# Altium schematic symbol library UC-SCH.SchLib: 115 symbols
Pins are listed as number, name and electrical type; pins without a type are passive.

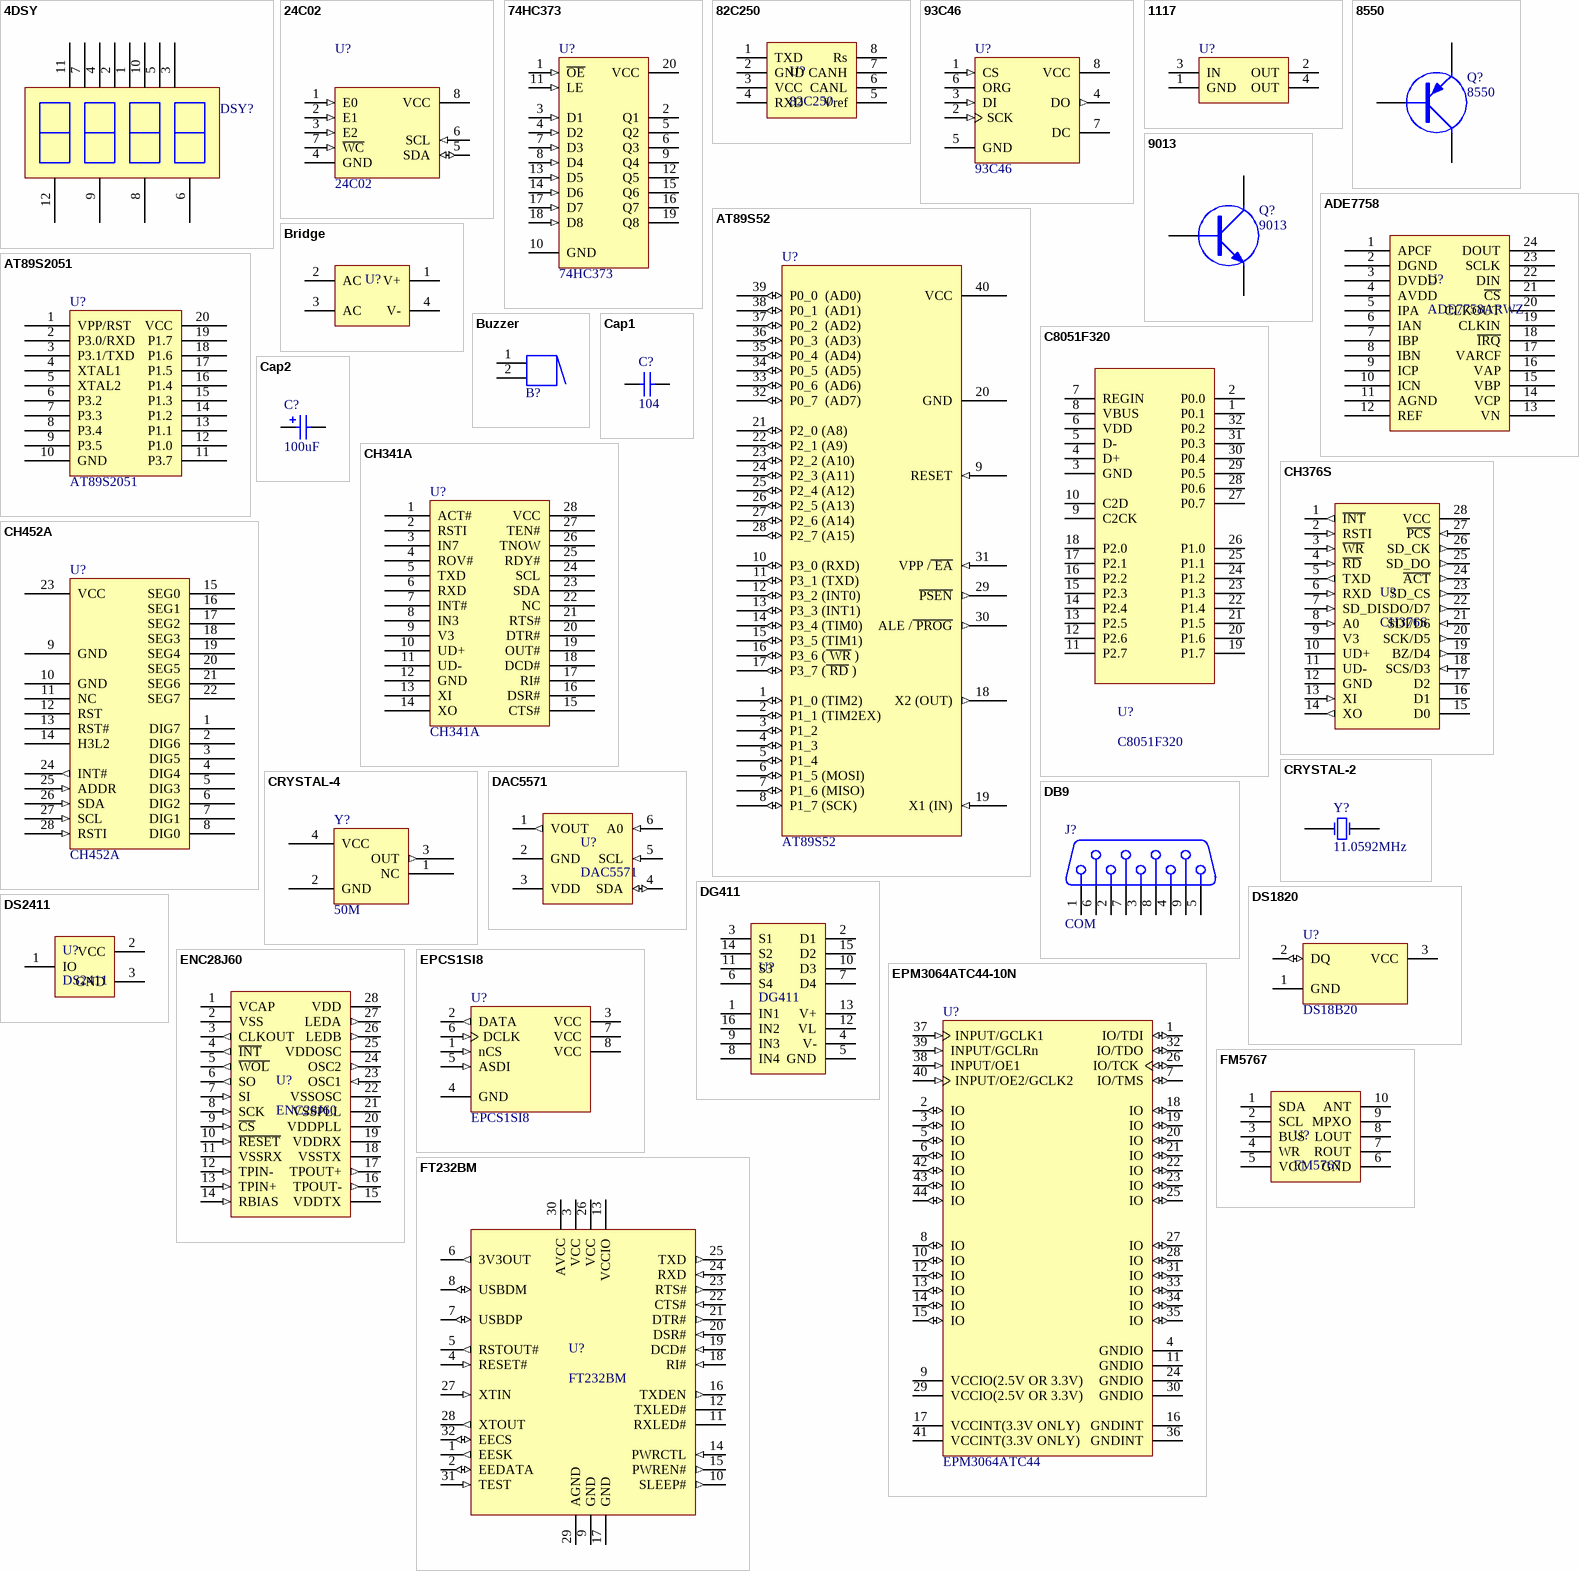
[diagram p0: symbols 4DSY to FT232BM]

## 4DSY
designator DSY?  (value not drawn)
4位数码管
footprint 4DSY0.36 (0.36英寸4位数码管)
footprint 4DSY0.56 (0.56英寸4位数码管)
pins: 1, 2, 3, 4, 5, 6, 7, 8, 9, 10, 11, 12

## 24C02
designator U?
I2C EEPROM; Published: 24-Aug-2001; LatestRevisionDate: 17-Jul-2002; LatestRevisionNote: Re-released for DXP Platform.; DatasheetDocument: Jul-1999; PackageDocument: Jul-1999; PackageReference: SOP8; Publisher: Altium Limited
footprint SOP-8P-3.9
pins: 1 E0 (in), 2 E1 (in), 3 E2 (in), 4 GND (power), 5 SDA (io), 6 SCL (in), 7 ~{WC} (in), 8 VCC (power)

## 74HC373
designator U?
地址锁存器; PackageDocument: 2000; Published: 17-Jul-2002; DatasheetDocument: Feb-1998; PackageReference: M20D; Publisher: Altium Limited
footprint SOP-20
pins: 1 ~{OE} (in), 2 Q1 (hiz), 3 D1 (in), 4 D2 (in), 5 Q2 (hiz), 6 Q3 (hiz), 7 D3 (in), 8 D4 (in), 9 Q4 (hiz), 10 GND (power), 11 LE (in), 12 Q5 (hiz), 13 D5 (in), 14 D6 (in), 15 Q6 (hiz), 16 Q7 (hiz), 17 D7 (in), 18 D8 (in), 19 Q8 (hiz), 20 VCC (power)

## 82C250
designator U?
CAN驱动器
footprint SOP-8P-3.9
pins: 1 TXD, 2 GND, 3 VCC, 4 RXD, 5 Vref, 6 CANL, 7 CANH, 8 Rs

## 93C46
designator U?
SPI EEPROM; Note: Do Not Use pin number 7 (DU).; Published: 24-Aug-2001; LatestRevisionDate: 6-Jun-2005; LatestRevisionNote: Stylized 3D Model Added.; DatasheetDocument: Jun-1997; PackageDocument: Jul-1999; PackageReference: SOP8; Publisher: Altium Limited; ComponentLink1Description: Manufacturer Link; ComponentLink1URL: http://www.st.com/
footprint SOP-8P-3.9
pins: 1 CS (in), 2 SCK (in), 3 DI (in), 4 DO (out), 5 GND (power), 6 ORG, 7 DC, 8 VCC (power)

## 1117
designator U?  (value not drawn)
800mA 稳压; PackageDocument: revC; Published: 8-Jun-2000; LatestRevisionDate: 17-Jul-2002; LatestRevisionNote: Re-released for DXP Platform.; DatasheetDocument: Sep-1997; PackageReference: ZZ311; Publisher: Altium Limited; ComponentLink1Description: Manufacturer Link; ComponentLink1URL: http://www.ti.com/
footprint SOT-223
pins: 1 GND (power), 2 OUT (power), 3 IN (power), 4 OUT (power)

## 8550
designator Q?
PNP三极管
footprint SOT-23-3P
pins: 1 B, 2 E, 3 C

## 9013
designator Q?
NPN三极管
footprint SOT-23-3P
pins: 1 B, 2 E, 3 C

## ADE7758
designator U?, comment ADE7758ARWZ
3相电表芯片
footprint SOP-24P-7.5
pins: 1 APCF, 2 DGND, 3 DVDD, 4 AVDD, 5 IPA, 6 IAN, 7 IBP, 8 IBN, 9 ICP, 10 ICN, 11 AGND, 12 REF, 13 VN, 14 VCP, 15 VBP, 16 VAP, 17 VARCF, 18 ~{IRQ}, 19 CLKIN, 20 CLKOUT, 21 ~{CS}, 22 DIN, 23 SCLK, 24 DOUT

## AT89S52
designator U?
PartNr: AT89S52-24PU; Vendor: ATMEL; GREEN OPTION: YES; PackAge: 40P6 40-pin, 0.600" Wide, Plastic Dual Inline Package (PDIP)
footprint 3M-40
footprint DIP-40
pins: 1 P1_0 (TIM2) (io) "PORT 1 BIT 0 OR TIM2", 2 P1_1 (TIM2EX) (io) "PORT 1 BIT 1 OR TIM2 EX", 3 P1_2 (io) "PORT 1 BIT 2", 4 P1_3 (io) "PORT 1 BIT 3", 5 P1_4 (io) "PORT 1 BIT 4", 6 P1_5 (MOSI) (io) "PORT 1 BIT 5 OR MOSI", 7 P1_6 (MISO) (io) "PORT 1 BIT 6 OR MISO", 8 P1_7 (SCK) (io) "PORT 1 BIT 7 OR SCK", 9 RESET (in) "RESET IN", 10 P3_0 (RXD) (io) "PORT 3 BIT 0 OR RXD", 11 P3_1 (TXD) (io) "PORT 3 BIT 1 OR TXD", 12 P3_2 (INT0) (io) "PORT 3 BIT 2 OR INT0", 13 P3_3 (INT1) (io) "PORT 3 BIT 3 OR INT1", 14 P3_4 (TIM0) (io) "PORT 3 BIT 4 OR TIM0", 15 P3_5 (TIM1) (io) "PORT 3 BIT 5 OR TIM1", 16 P3_6 (~{ WR} ) (io) "PORT 3 BIT 6 OR /WR", 17 P3_7 (~{ RD} ) (io) "PORT 3 BIT 7 OR /RD", 18 X2 (OUT) (out) "CLCOK OSC OUT", 19 X1 (IN) (in) "XTAL 1 OR CLK INPUT", 20 GND (power) "POWER GND", 21 P2_0 (A8) (io) "PORT 2 BIT 0 OR A8", 22 P2_1 (A9) (io) "PORT 2 BIT 1 OR A9", 23 P2_2 (A10) (io) "PORT 2 BIT 2 OR A10", 24 P2_3 (A11) (io) "PORT 2 BIT 3 OR A11", 25 P2_4 (A12) (io) "PORT 2 BIT 4 OR A12", 26 P2_5 (A13) (io) "PORT 2 BIT 5 OR A13", 27 P2_6 (A14) (io) "PORT 2 BIT 6 OR A14", 28 P2_7 (A15) (io) "PORT 2 BIT 7 OR A15", 29 ~{PSEN} (out) "PROG STORE ENABLE", 30 ALE /~{ PROG} (out) "ALE / PROG PULSE IN", 31 VPP /~{ EA} (in) "EX ACCESS ENABLE OR VPP IN", 32 P0_7  (AD7) (io) "PORT 0 BIT 0  (AD7)", 33 P0_6  (AD6) (io) "PORT 0 BIT 0  (AD6)", 34 P0_5  (AD5) (io) "PORT 0 BIT 0  (AD5)", 35 P0_4  (AD4) (io) "PORT 0 BIT 0  (AD4)", 36 P0_3  (AD3) (io) "PORT 0 BIT 0  (AD3)", 37 P0_2  (AD2) (io) "PORT 0 BIT 0  (AD2)", 38 P0_1  (AD1) (io) "PORT 0 BIT 0  (AD1)", 39 P0_0  (AD0) (io) "PORT 0 BIT 0  (AD0)", 40 VCC (power) "VCC 5V NOMINAL"

## AT89S2051
designator U?
footprint 3M-20
pins: 1 VPP/RST, 2 P3.0/RXD, 3 P3.1/TXD, 4 XTAL1, 5 XTAL2, 6 P3.2, 7 P3.3, 8 P3.4, 9 P3.5, 10 GND, 11 P3.7, 12 P1.0, 13 P1.1, 14 P1.2, 15 P1.3, 16 P1.4, 17 P1.5, 18 P1.6, 19 P1.7, 20 VCC

## Bridge
designator U?  (value not drawn)
整流桥
footprint Bridge
pins: 1 V+, 2 AC, 3 AC, 4 V-

## Buzzer
designator B?  (value not drawn)
蜂鸣器; Published: 24-Mar-1999; LatestRevisionDate: 17-Dec-2003; LatestRevisionNote: Schematic revised, PCB Footprint replaced.; DatasheetDocument: 17-Dec-2003; Publisher: Altium Limited
footprint BUZZER
pins: 1, 2
1 alternate drawing of the same symbol

## C8051F320
designator U?
footprint QFP-32P-0.8
pins: 1 P0.1, 2 P0.0, 3 GND, 4 D+, 5 D-, 6 VDD, 7 REGIN, 8 VBUS, 9 C2CK, 10 C2D, 11 P2.7, 12 P2.6, 13 P2.5, 14 P2.4, 15 P2.3, 16 P2.2, 17 P2.1, 18 P2.0, 19 P1.7, 20 P1.6, 21 P1.5, 22 P1.4, 23 P1.3, 24 P1.2, 25 P1.1, 26 P1.0, 27 P0.7, 28 P0.6, 29 P0.5, 30 P0.4, 31 P0.3, 32 P0.2

## Cap1
designator C?, comment 104
无极电容; Published: 8-Jun-2000; LatestRevisionDate: 17-Jul-2002; LatestRevisionNote: Re-released for DXP Platform.; Publisher: Altium Limited
simulation model CAP (Capacitor)
signal-integrity model Cap
footprint 0805
pins: 1, 2

## Cap2
designator C?, comment 100uF
电解电容; Published: 8-Jun-2000; LatestRevisionDate: 17-Jul-2002; LatestRevisionNote: Re-released for DXP Platform.; PackageReference: C0805; Publisher: Altium Limited
simulation model CAP (Capacitor)
signal-integrity model Cap Pol
footprint C6.5 (6.5*6.5电解电容)
footprint C4 (4*4电解电容)
footprint C8 (8*8电解电容)
footprint C1206
pins: 1, 2
1 alternate drawing of the same symbol

## CH341A
designator U?
USB转RS232
footprint SOJ-28/400 (SOJ; 28 Leads; Body Width 10.16 mm; Pitch 1.27 mm)
pins: 1 ACT#, 2 RSTI, 3 IN7, 4 ROV#, 5 TXD, 6 RXD, 7 INT#, 8 IN3, 9 V3, 10 UD+, 11 UD-, 12 GND, 13 XI, 14 XO, 15 CTS#, 16 DSR#, 17 RI#, 18 DCD#, 19 OUT#, 20 DTR#, 21 RTS#, 22 NC, 23 SDA, 24 SCL, 25 RDY#, 26 TNOW, 27 TEN#, 28 VCC

## CH376S
designator U?
USB主从 SD
footprint SOP-28P-7.5
pins: 1 ~{INT} (out), 2 RSTI (in), 3 ~{WR} (in), 4 ~{RD} (in), 5 TXD (out), 6 RXD (in), 7 SD_DI (in), 8 A0 (in), 9 V3 (power), 10 UD+, 11 UD-, 12 GND, 13 XI (in), 14 XO (out), 15 D0, 16 D1, 17 D2, 18 SCS/D3 (in), 19 BZ/D4 (out), 20 SCK/D5 (out), 21 SDI/D6 (in), 22 SDO/D7 (out), 23 SD_CS (out), 24 ~{ACT} (out), 25 SD_DO (out), 26 SD_CK (out), 27 ~{PCS} (in), 28 VCC

## CH452A
designator U?
数码管驱动芯片
footprint SOP-28P-7.5
pins: 1 DIG7, 2 DIG6, 3 DIG5, 4 DIG4, 5 DIG3, 6 DIG2, 7 DIG1, 8 DIG0, 9 GND (power), 10 GND, 11 NC, 12 RST, 13 RST#, 14 H3L2, 15 SEG0, 16 SEG1, 17 SEG2, 18 SEG3, 19 SEG4, 20 SEG5, 21 SEG6, 22 SEG7, 23 VCC (power), 24 INT# (out), 25 ADDR (in), 26 SDA (in), 27 SCL (in), 28 RSTI (in)

## CRYSTAL-2
designator Y?, comment 11.0592MHz
晶振; Published: 8-Jun-2000; LatestRevisionDate: 17-Jul-2002; LatestRevisionNote: Re-released for DXP Platform.; PackageReference: R38; Publisher: Altium Limited
simulation model XTAL (Spice Subcircuit)
footprint 32.768K (圆柱形晶振)
footprint CRYSTAL-2P
pins: 1 OSC1, 2 OSC2

## CRYSTAL-4
designator Y?, comment 50M
有源晶振
footprint JINZHEN
footprint CRYSTAL-4S
pins: 1 NC, 2 GND (power), 3 OUT (out), 4 VCC (power)

## DAC5571
designator U?
I2C 8位DAC
footprint SOT-23-6P
pins: 1 VOUT (out), 2 GND, 3 VDD, 4 SDA (io), 5 SCL (in), 6 A0 (in)

## DB9
designator J?, comment COM
DB9弯座; PackageDocument: O; Positions: 9; Gender: Receptacle; Published: 15-Jun-2001; LatestRevisionDate: 17-Jul-2002; LatestRevisionNote: Re-released for DXP Platform.; DatasheetDocument: 1-Sep-1999; PackageReference: 788750; Publisher: Altium Limited; Orientation: Right Angle
footprint DB-9F
signal-integrity model Connector
footprint DB-9M
pins: 1, 2, 3, 4, 5, 6, 7, 8, 9

## DG411
designator U?
模拟开关
footprint SOP-16
pins: 1 IN1, 2 D1, 3 S1, 4 V-, 5 GND, 6 S4, 7 D4, 8 IN4, 9 IN3, 10 D3, 11 S3, 12 VL, 13 V+, 14 S2, 15 D2, 16 IN2

## DS1820
designator U?, comment DS18B20
温度传感器; PackageDocument: 1999; Published: 13-Oct-2000; LatestRevisionDate: 17-Jul-2002; LatestRevisionNote: Re-released for DXP Platform.; DatasheetDocument: 5-Mar-1998; PackageReference: PR35; Publisher: Altium Limited
footprint TO-92
pins: 1 GND (power), 2 DQ (io), 3 VCC (power)

## DS2411
designator U?
电子识别码
footprint SOT-23-3
pins: 1 IO, 2 VCC, 3 GND

## ENC28J60
designator U?
SPI 10M 网络
footprint SOP-28P-7.5
pins: 1 VCAP (power), 2 VSS (power), 3 CLKOUT (out), 4 ~{INT} (out), 5 ~{WOL} (out), 6 SO (out), 7 SI (in), 8 SCK (in), 9 ~{CS} (in), 10 ~{RESET} (in), 11 VSSRX (power), 12 TPIN- (in), 13 TPIN+ (in), 14 RBIAS (in), 15 VDDTX (power), 16 TPOUT- (out), 17 TPOUT+ (out), 18 VSSTX (power), 19 VDDRX (power), 20 VDDPLL (power), 21 VSSPLL (power), 22 VSSOSC (power), 23 OSC1 (in), 24 OSC2 (out), 25 VDDOSC (power), 26 LEDB (out), 27 LEDA (out), 28 VDD (power)

## EPCS1SI8
designator U?
FPGA配置芯片; PackageDocument: ver11.0, Feb-2003; Configures: Cyclone FPGAs; Published: 17-Sep-2003; DatasheetDocument: ver1.1, Oct-2003; PackageReference: SOIC8; Publisher: Altium Limited; Code_JEDEC: MS-012-AA; Code_IPC: SO8
footprint SOP-8
pins: 1 nCS (in) "Active low, chip select input", 2 DATA (out) "Serial data out", 3 VCC (power) "3.3V supply", 4 GND (power) "Ground", 5 ASDI (in) "AS data in", 6 DCLK (in) "Provides timing of the serial interface", 7 VCC (power) "3.3V supply", 8 VCC (power) "3.3V supply"

## EPM3064ATC44-10N
designator U?, comment EPM3064ATC44
CPLD; PackageDocument: ver12.0, Oct-2003; Published: 4-Mar-2005; DatasheetDocument: ver3.4, Jun-2003; PackageReference: TQFP44; Publisher: Altium Limited; ComponentLink1Description: MAX3000A Home Page; ComponentLink1URL: http://www.altera.com/products/devices/max3k/m3k-index.html; ComponentLink2Description: Datasheet; ComponentLink2URL: http://www.altera.com/literature/ds/m3000a.pdf; ComponentLink3Description: Pinout Specification 1; ComponentLink3URL: http://www.altera.com/literature/dp/max3k/epm3064a-dedicated.txt; ComponentLink4Description: Pinout Specification 2; ComponentLink4URL: http://www.altera.com/literature/dp/max3k/epm3064a-io.txt; ComponentLink5Description: Packaging Specification; ComponentLink5URL: http://www.altera.com/literature/ds/dspkg.pdf; ComponentLink6Description: Lead-Free Devices; ComponentLink6URL: http://www.altera.com/products/devices/leadfree/lead-free_index.html; Code_JEDEC: MS-026-BCB
footprint TQFP-44 (44-Pin Plastic Thin Quad Flat Pack (TFQP))
3D model EPM3064A-TQFP44 (44-Pin Plastic Thin Quad Flat Pack (TFQP))
signal-integrity model max3ka (MAX 3000A)
pins: 1 IO/TDI (io), 2 IO (io), 3 IO (io), 4 GNDIO (power), 5 IO (io), 6 IO (io), 7 IO/TMS (io), 8 IO (io), 9 VCCIO(2.5V OR 3.3V) (power), 10 IO (io), 11 GNDIO (power), 12 IO (io), 13 IO (io), 14 IO (io), 15 IO (io), 16 GNDINT (power), 17 VCCINT(3.3V ONLY) (power), 18 IO (io), 19 IO (io), 20 IO (io), 21 IO (io), 22 IO (io), 23 IO (io), 24 GNDIO (power), 25 IO (io), 26 IO/TCK (io), 27 IO (io), 28 IO (io), 29 VCCIO(2.5V OR 3.3V) (power), 30 GNDIO (power), 31 IO (io), 32 IO/TDO (io), 33 IO (io), 34 IO (io), 35 IO (io), 36 GNDINT (power), 37 INPUT/GCLK1 (in), 38 INPUT/OE1 (in), 39 INPUT/GCLRn (in), 40 INPUT/OE2/GCLK2 (in), 41 VCCINT(3.3V ONLY) (power), 42 IO (io), 43 IO (io), 44 IO (io)

## FM5767
designator U?
FM模块
footprint FM5767
pins: 1 SDA, 2 SCL, 3 BUS, 4 WR, 5 VCC, 6 GND, 7 ROUT, 8 LOUT, 9 MPXO, 10 ANT

## FT232BM
designator U?
USB转UART
footprint QFP-32P-0.8
pins: 1 EESK (out), 2 EEDATA (io), 3 VCC (power), 4 RESET# (in), 5 RSTOUT# (out), 6 3V3OUT (out), 7 USBDP (io), 8 USBDM (io), 9 GND (power), 10 SLEEP# (out), 11 RXLED# (oc), 12 TXLED# (oc), 13 VCCIO (power), 14 PWRCTL (in), 15 PWREN# (out), 16 TXDEN (out), 17 GND (power), 18 RI# (in), 19 DCD# (in), 20 DSR# (in), 21 DTR# (out), 22 CTS# (in), 23 RTS# (out), 24 RXD (in), 25 TXD (out), 26 VCC (power), 27 XTIN (in), 28 XTOUT (out), 29 AGND (power), 30 AVCC (power), 31 TEST (in), 32 EECS (io)

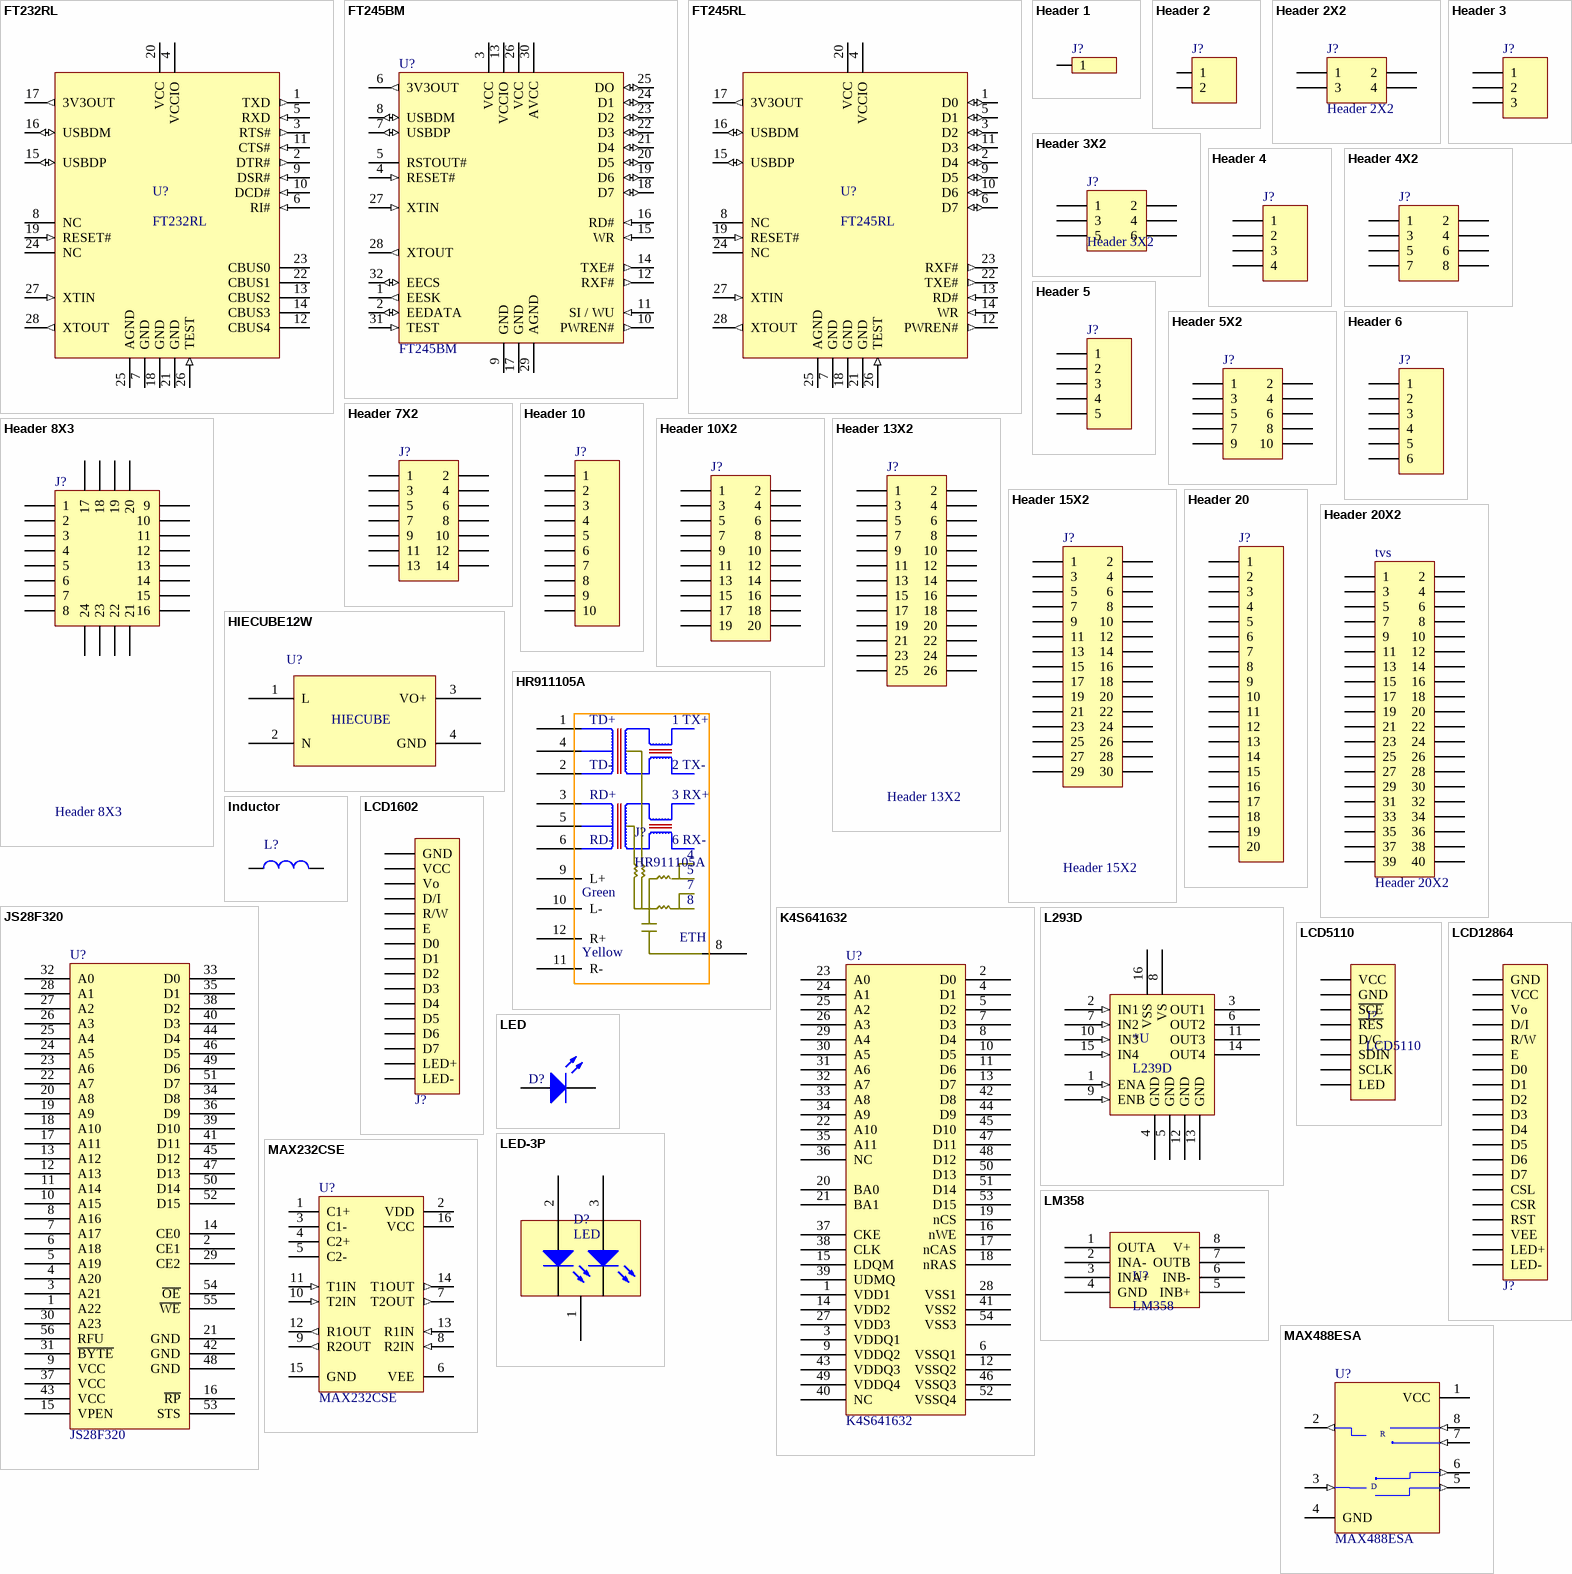
[diagram p1: symbols FT232RL to MAX488ESA]

## FT232RL
designator U?
USB转UART
footprint SSOP-28P-0.65
pins: 1 TXD (out), 2 DTR# (out), 3 RTS# (out), 4 VCCIO (power), 5 RXD (in), 6 RI# (in), 7 GND (power), 8 NC (power), 9 DSR# (in), 10 DCD# (in), 11 CTS# (in), 12 CBUS4 (oc), 13 CBUS2 (oc), 14 CBUS3 (oc), 15 USBDP (io), 16 USBDM (io), 17 3V3OUT (out), 18 GND (power), 19 RESET# (in), 20 VCC (power), 21 GND (power), 22 CBUS1 (oc), 23 CBUS0 (oc), 24 NC, 25 AGND (power), 26 TEST (in), 27 XTIN (in), 28 XTOUT (out)

## FT245BM
designator U?
USB转FIFO; Published: 6-Jun-2005; DatasheetDocument: ver 1.6, Feb-2005; PackageDocument: Feb-2005; PackageReference: LQFP-32; Publisher: Altium Limited; ComponentLink1Description: Manufacturer Link; ComponentLink1URL: http://www.ftdichip.com/Products/FT245BM.htm; ComponentLink2Description: Datasheet; ComponentLink2URL: http://www.ftdichip.com/Documents/DataSheets/ds245bl16.pdf
footprint QFP-32P-0.8
pins: 1 EESK (out) "Clock signal to EEPROM. Adding a 10K pull down resistor onto EESK will cause the FT245BM to use USB Product ID 6005 (hex) instead of 6001 (hex). All of the other USB device descriptors are unchanged.", 2 EEDATA (io) "EEPROM - Data I/O Connect directly to Data-In of the EEPROM and to Data-Out of the EEPROM via a 2.2K resistor. Also pull Data-Out of the EEPROM to VCC via a 10K resistor for correct operation.", 3 VCC (power) "+4.35 volt to +5.25 volt VCC to the device core, LDO and none-FIFO interface pins.", 4 RESET# (in) "Can be used by an external device to reset the FT245BM. If not required, tie to VCC.", 5 RSTOUT# (hiz) "Output of the internal Reset Generator. Stays high impedance for 5ms after VCC > 3.5V and the internal clock starts up, then clamps its output to the 3.3V output of the internal regulator.", 6 3V3OUT (out) "3.3 volt Output from the integrated L.D.O. regulator This pin should be decoupled to GND using a 33nF ceramic capacitor in close proximity to the device pin.", 7 USBDP (io) "USB Data Signal Plus (Requires 1.5K pull-up to 3V3OUT or RSTOUT#)", 8 USBDM (io) "USB Data Signal Minus", 9 GND (power) "Device - Ground Supply Pins", 10 PWREN# (out) "Goes Low after the device is configured via USB, then high during USB suspend. Can be used to control power to external logic using a P-Channel MOSFET switch. Enable the Interface Pull-Down Option in EEPROM when using the PWREN# pin in this way.", 11 SI / WU (in) "Send Immediate / WakeUp. Tie this pin to VCCIO if not used.", 12 RXF# (out) "When high, do not read data from the FIFO. When low, there is data available in the FIFO which can be read by strobing RD# low then high again.", 13 VCCIO (power) "+3.0 volt to +5.25 volt VCC to the FIFO interface pins 10..12, 14..16 and 18..25.", 14 TXE# (out) "When high, do not write data into the FIFO. When low, data can be written into the FIFO by strobing WR high then low.", 15 WR (in) "Writes the Data Byte on the D0..D7 into the Transmit FIFO Buffer when WR goes from high to low.", 16 RD# (in) "Enables Current FIFO Data Byte on D0..D7 when low. Fetches the next FIFO Data Byte (if available) from the Receive FIFO Buffer when RD# goes from low to high.", 17 GND (power) "Device - Ground Supply Pins", 18 D7 (io) "FIFO Data Bus Bit 7", 19 D6 (io) "FIFO Data Bus Bit 6", 20 D5 (io) "FIFO Data Bus Bit 5", 21 D4 (io) "FIFO Data Bus Bit 4", 22 D3 (io) "FIFO Data Bus Bit 3", 23 D2 (io) "FIFO Data Bus Bit 2", 24 D1 (io) "FIFO Data Bus Bit 1", 25 DO (io) "FIFO Data Bus Bit 0", 26 VCC (power) "+4.35 volt to +5.25 volt VCC to the device core, LDO and none-FIFO interface pins.", 27 XTIN (in) "Input to 6MHz Crystal Oscillator. Can also be driven by an external 6MHz clock. Note : Switching threshold of this pin is VCC/2, so if driving from an external source, the source must be driving at 5V CMOS level or a.c. coupled to centre around VCC/2.", 28 XTOUT (out) "Output from 6MHz Crystal Oscillator Cell. XTOUT stops oscillating during USB suspend, so take care if using this signal to clock external logic.", 29 AGND (power) "Device - Analog Ground Supply for the internal x8 clock multiplier", 30 AVCC (power) "Device - Analog Power Supply for the internal x8 clock multiplier", 31 TEST (in) "Puts device in I.C. test mode ?must be tied to GND for normal operation.", 32 EECS (io) "EEPROM - Chip Select. For 48MHz operation pull EECS to GND using a 10K resistor. For 6MHz operation no resistor is required."

## FT245RL
designator U?
USB转FIFO
footprint SSOP-28P-0.65
pins: 1 D0 (io), 2 D4 (io), 3 D2 (io), 4 VCCIO (power), 5 D1 (io), 6 D7 (io), 7 GND (power), 8 NC (power), 9 D5 (io), 10 D6 (io), 11 D3 (io), 12 PWREN# (out), 13 RD# (in), 14 WR (in), 15 USBDP (io), 16 USBDM (io), 17 3V3OUT (out), 18 GND (power), 19 RESET# (in), 20 VCC (power), 21 GND (power), 22 TXE# (out), 23 RXF# (out), 24 NC, 25 AGND (power), 26 TEST (in), 27 XTIN (in), 28 XTOUT (out)

## Header 1
designator J?  (value not drawn)
1P; LatestRevisionDate: 17-Jul-2002; LatestRevisionNote: Re-released for DXP Platform.; Publisher: Altium Limited
footprint CON1
signal-integrity model Connector
footprint ANT
pins: 1

## Header 2
designator J?  (value not drawn)
2P; LatestRevisionDate: 17-Jul-2002; LatestRevisionNote: Re-released for DXP Platform.; Publisher: Altium Limited
footprint CON2
signal-integrity model Connector
pins: 1, 2

## Header 2X2
designator J?
2P*2; LatestRevisionDate: 17-Jul-2002; LatestRevisionNote: Re-released for DXP Platform.; Publisher: Altium Limited
signal-integrity model Connector
footprint CON2*2
pins: 1, 2, 3, 4

## Header 3
designator J?
3P; LatestRevisionDate: 17-Jul-2002; LatestRevisionNote: Re-released for DXP Platform.; Publisher: Altium Limited
signal-integrity model Connector
footprint CON3
pins: 1, 2, 3

## Header 3X2
designator J?
3P*2; LatestRevisionDate: 17-Jul-2002; LatestRevisionNote: Re-released for DXP Platform.; Publisher: Altium Limited
signal-integrity model Connector
footprint CON3*2
pins: 1, 2, 3, 4, 5, 6

## Header 4
designator J?  (value not drawn)
4P; LatestRevisionDate: 17-Jul-2002; LatestRevisionNote: Re-released for DXP Platform.; Publisher: Altium Limited
footprint CON4
signal-integrity model Connector
pins: 1, 2, 3, 4

## Header 4X2
designator J?  (value not drawn)
4P*2; LatestRevisionDate: 17-Jul-2002; LatestRevisionNote: Re-released for DXP Platform.; Publisher: Altium Limited
footprint CON4*2
signal-integrity model Connector
footprint DC3-10
footprint DC3-10B
footprint 10P
pins: 1, 2, 3, 4, 5, 6, 7, 8

## Header 5
designator J?  (value not drawn)
5P; LatestRevisionDate: 17-Jul-2002; LatestRevisionNote: Re-released for DXP Platform.; Publisher: Altium Limited
footprint CON5
signal-integrity model Connector
pins: 1, 2, 3, 4, 5

## Header 5X2
designator J?  (value not drawn)
5P*2; LatestRevisionDate: 17-Jul-2002; LatestRevisionNote: Re-released for DXP Platform.; Publisher: Altium Limited
footprint CON5*2
signal-integrity model Connector
footprint DC3-10
footprint DC3-10B
footprint 10P
pins: 1, 2, 3, 4, 5, 6, 7, 8, 9, 10

## Header 6
designator J?  (value not drawn)
6P; LatestRevisionDate: 17-Jul-2002; LatestRevisionNote: Re-released for DXP Platform.; Publisher: Altium Limited
footprint CON6
signal-integrity model Connector
pins: 1, 2, 3, 4, 5, 6

## Header 7X2
designator J?  (value not drawn)
7P*2; LatestRevisionDate: 17-Jul-2002; LatestRevisionNote: Re-released for DXP Platform.; Publisher: Altium Limited
signal-integrity model Connector
footprint CON7*2
footprint 14P
pins: 1, 2, 3, 4, 5, 6, 7, 8, 9, 10, 11, 12, 13, 14

## Header 8X3
designator J?
8P*3; LatestRevisionDate: 17-Jul-2002; LatestRevisionNote: Re-released for DXP Platform.; Publisher: Altium Limited
footprint CON8*3 (Footprint not found)
signal-integrity model Connector
pins: 1, 2, 3, 4, 5, 6, 7, 8, 9, 10, 11, 12, 13, 14, 15, 16, 17, 18, 19, 20, 21, 22, 23, 24

## Header 10
designator J?  (value not drawn)
10P; LatestRevisionDate: 17-Jul-2002; LatestRevisionNote: Re-released for DXP Platform.; Publisher: Altium Limited
footprint CON10
signal-integrity model Connector
pins: 1, 2, 3, 4, 5, 6, 7, 8, 9, 10

## Header 10X2
designator J?
10P*2; LatestRevisionDate: 17-Jul-2002; LatestRevisionNote: Re-released for DXP Platform.; Publisher: Altium Limited
signal-integrity model Connector
footprint CON10*2
pins: 1, 2, 3, 4, 5, 6, 7, 8, 9, 10, 11, 12, 13, 14, 15, 16, 17, 18, 19, 20

## Header 13X2
designator J?
13P*2; LatestRevisionDate: 17-Jul-2002; LatestRevisionNote: Re-released for DXP Platform.; Publisher: Altium Limited
footprint CON13*2
signal-integrity model Connector
pins: 1, 2, 3, 4, 5, 6, 7, 8, 9, 10, 11, 12, 13, 14, 15, 16, 17, 18, 19, 20, 21, 22, 23, 24, 25, 26

## Header 15X2
designator J?
15P*2; LatestRevisionDate: 17-Jul-2002; LatestRevisionNote: Re-released for DXP Platform.; Publisher: Altium Limited
footprint CON15*2
signal-integrity model Connector
pins: 1, 2, 3, 4, 5, 6, 7, 8, 9, 10, 11, 12, 13, 14, 15, 16, 17, 18, 19, 20, 21, 22, 23, 24, 25, 26, 27, 28, 29, 30

## Header 20
designator J?  (value not drawn)
20P; LatestRevisionDate: 17-Jul-2002; LatestRevisionNote: Re-released for DXP Platform.; Publisher: Altium Limited
footprint CON20
signal-integrity model Connector
pins: 1, 2, 3, 4, 5, 6, 7, 8, 9, 10, 11, 12, 13, 14, 15, 16, 17, 18, 19, 20

## Header 20X2
designator tvs
20P*2; LatestRevisionDate: 17-Jul-2002; LatestRevisionNote: Re-released for DXP Platform.; Publisher: Altium Limited
footprint CON20*2
signal-integrity model Connector
pins: 1, 2, 3, 4, 5, 6, 7, 8, 9, 10, 11, 12, 13, 14, 15, 16, 17, 18, 19, 20, 21, 22, 23, 24, 25, 26, 27, 28, 29, 30, 31, 32, 33, 34, 35, 36, 37, 38, 39, 40

## HIECUBE12W
designator U?
12W单输出模块
footprint HIECUBE12W
pins: 1 L, 2 N, 3 VO+, 4 GND
text: HIECUBE

## HR911105A
designator J?
带LED网口
footprint RJ-45-LED
pins: 1, 2, 3, 4, 5, 6, 8, 9 L+, 10 L-, 11 R-, 12 R+
text: TD+; 1 TX+; TD-; 2 TX-; RD+; 3 RX+; RD-; 6 RX-; 7; Green; ETH; Yellow

## Inductor
designator L?  (value not drawn)
电感; Code_IEC: 1005; Published: 8-Jun-2000; LatestRevisionDate: 17-Jul-2002; LatestRevisionNote: Re-released for DXP Platform.; PackageReference: 0402-A; Publisher: Altium Limited; Code_JEITA: 0402
simulation model INDUCTOR (Inductor)
signal-integrity model Inductor
footprint 0805
pins: 1, 2

## JS28F320
designator U?
FLASH
footprint TSOP-56
footprint TSSOP-56
pins: 1 A22, 2 CE1, 3 A21, 4 A20, 5 A19, 6 A18, 7 A17, 8 A16, 9 VCC, 10 A15, 11 A14, 12 A13, 13 A12, 14 CE0, 15 VPEN, 16 ~{RP}, 17 A11, 18 A10, 19 A9, 20 A8, 21 GND, 22 A7, 23 A6, 24 A5, 25 A4, 26 A3, 27 A2, 28 A1, 29 CE2, 30 A23, 31 ~{BYTE}, 32 A0, 33 D0, 34 D8, 35 D1, 36 D9, 37 VCC, 38 D2, 39 D10, 40 D3, 41 D11, 42 GND, 43 VCC, 44 D4, 45 D12, 46 D5, 47 D13, 48 GND, 49 D6, 50 D14, 51 D7, 52 D15, 53 STS, 54 ~{OE}, 55 ~{WE}, 56 RFU

## K4S641632
designator U?
SDRAM
footprint TSOP-54
pins: 1 VDD1, 2 D0, 3 VDDQ1, 4 D1, 5 D2, 6 VSSQ1, 7 D3, 8 D4, 9 VDDQ2, 10 D5, 11 D6, 12 VSSQ2, 13 D7, 14 VDD2, 15 LDQM, 16 nWE, 17 nCAS, 18 nRAS, 19 nCS, 20 BA0, 21 BA1, 22 A10, 23 A0, 24 A1, 25 A2, 26 A3, 27 VDD3, 28 VSS1, 29 A4, 30 A5, 31 A6, 32 A7, 33 A8, 34 A9, 35 A11, 36 NC, 37 CKE, 38 CLK, 39 UDMQ, 40 NC, 41 VSS2, 42 D8, 43 VDDQ3, 44 D9, 45 D10, 46 VSSQ3, 47 D11, 48 D12, 49 VDDQ4, 50 D13, 51 D14, 52 VSSQ4, 53 D15, 54 VSS3

## L293D
designator *U, comment L239D
电机驱动
footprint DIP-16
pins: 1 ENA (in), 2 IN1 (in), 3 OUT1, 4 GND, 5 GND, 6 OUT2, 7 IN2 (in), 8 VS, 9 ENB (in), 10 IN3 (in), 11 OUT3, 12 GND, 13 GND, 14 OUT4, 15 IN4 (in), 16 VSS

## LCD1602
designator J?  (value not drawn)
1602字符液晶
footprint CON16
pins: 1 GND, 2 VCC, 3 Vo, 4 D/I, 5 R/W, 6 E, 7 D0, 8 D1, 9 D2, 10 D3, 11 D4, 12 D5, 13 D6, 14 D7, 15 LED+, 16 LED-

## LCD5110
designator J?
诺基亚5110液晶
footprint LCD5110
pins: 1 VCC, 2 GND, 3 ~{SCE}, 4 ~{RES}, 5 D/C, 6 SDIN, 7 SCLK, 8 LED

## LCD12864
designator J?  (value not drawn)
128*64图形液晶
footprint CON20
pins: 1 GND, 2 VCC, 3 Vo, 4 D/I, 5 R/W, 6 E, 7 D0, 8 D1, 9 D2, 10 D3, 11 D4, 12 D5, 13 D6, 14 D7, 15 CSL, 16 CSR, 17 RST, 18 VEE, 19 LED+, 20 LED-

## LED
designator D?  (value not drawn)
Published: 8-Jun-2000; LatestRevisionDate: 17-Jul-2002; LatestRevisionNote: Re-released for DXP Platform.; Publisher: Altium Limited
simulation model LED0 (Diode)
footprint LED-2P
footprint 1206 (Chip Diode; Body 3.2 x 1.6 mm (LxW typ))
footprint CD2012-0805 (Chip Diode; Body 2.0 x 1.3 mm (LxW typ))
pins: 1 A, 2 K

## LED-3P
designator D?, comment LED
双色LED; Published: 8-Jun-2000; LatestRevisionDate: 17-Jul-2002; LatestRevisionNote: Re-released for DXP Platform.; Publisher: Altium Limited
simulation model LED0 (Diode)
footprint LED-3P (Footprint not found)
pins: 1 A, 1 A, 1, 2 K, 2 K, 2, 3

## LM358
designator U?
运放
footprint SOP-8
pins: 1 OUTA, 2 INA-, 3 INA+, 4 GND, 5 INB+, 6 INB-, 7 OUTB, 8 V+

## MAX232CSE
designator U?
5V TTL转RS-232; Published: 16-Jan-2001; LatestRevisionDate: 17-Jul-2002; LatestRevisionNote: Re-released for DXP Platform.; PackageReference: NSO16; Publisher: Altium Limited; Code_JEDEC: MS-012-AC; Code_IPC: SO16
footprint SOP-16P-3.9
pins: 1 C1+, 2 VDD (power), 3 C1-, 4 C2+, 5 C2-, 6 VEE (power), 7 T2OUT (out), 8 R2IN (in), 9 R2OUT (out), 10 T2IN (in), 11 T1IN (in), 12 R1OUT (out), 13 R1IN (in), 14 T1OUT (out), 15 GND (power), 16 VCC (power)

## MAX488ESA
designator U?
双工RS-485; Published: 16-Jan-2001; LatestRevisionDate: 17-Jul-2002; LatestRevisionNote: Re-released for DXP Platform.; DatasheetDocument: Feb-1996; PackageReference: NSO8; Publisher: Altium Limited; Code_JEDEC: MS-012-AA; Code_IPC: SO8
footprint SOP-8P-3.9
pins: 1 VCC (power), 2 RO (out), 3 DI (in), 4 GND (power), 5 Y (out), 6 Z (out), 7 B (in), 8 A (in)
text: R; D

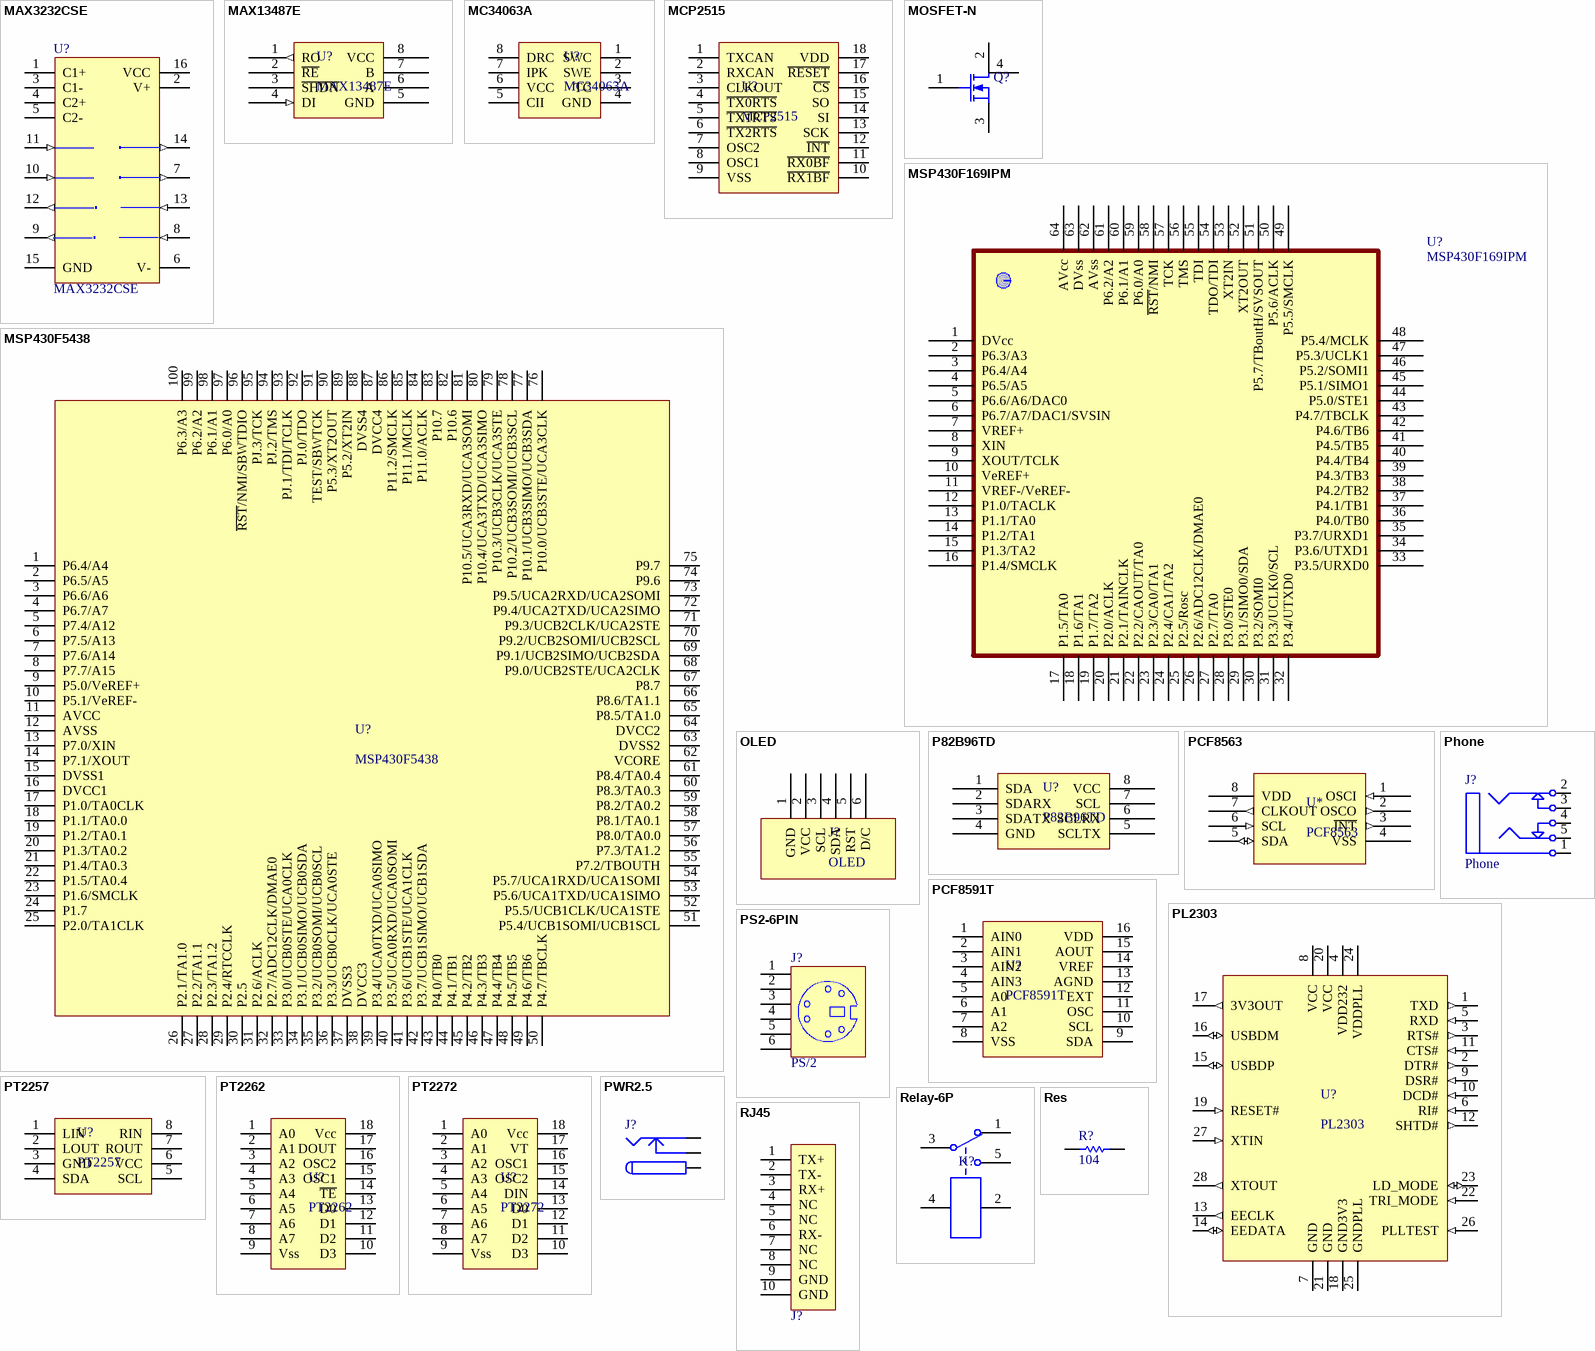
[diagram p2: symbols MAX3232CSE to RJ45]

## MAX3232CSE
designator U?
3.3V TTL转RS-232; Published: 16-Jan-2001; LatestRevisionDate: 17-Jul-2002; LatestRevisionNote: Re-released for DXP Platform.; DatasheetDocument: Mar-1999; PackageReference: NSO16; Publisher: Altium Limited; Code_JEDEC: MS-012-AC; Code_IPC: SO16
footprint SOP-16P-3.9
pins: 1 C1+, 2 V+ (power), 3 C1-, 4 C2+, 5 C2-, 6 V- (power), 7 T2OUT (out), 8 R2IN (in), 9 R2OUT (out), 10 T2IN (in), 11 T1IN (in), 12 R1OUT (out), 13 R1IN (in), 14 T1OUT (out), 15 GND (power), 16 VCC (power)

## MAX13487E
designator U?
footprint SOP-8P-3.9
pins: 1 RO (out), 2 ~{RE}, 3 ~{SHDN}, 4 DI (in), 5 GND, 6 A, 7 B, 8 VCC

## MC34063A
designator U?
升压
footprint SOP-8
pins: 1 SWC, 2 SWE, 3 TC, 4 GND, 5 CII, 6 VCC, 7 IPK, 8 DRC

## MCP2515
designator U?
CAN2.0
footprint SOP-18P-7.5
pins: 1 TXCAN, 2 RXCAN, 3 CLKOUT, 4 ~{TX0RTS}, 5 ~{TX1RTS}, 6 ~{TX2RTS}, 7 OSC2, 8 OSC1, 9 VSS, 10 ~{RX1BF}, 11 ~{RX0BF}, 12 ~{INT}, 13 SCK, 14 SI, 15 SO, 16 ~{CS}, 17 ~{RESET}, 18 VDD

## MOSFET-N
designator Q?, comment BSP123  (value not drawn)
N-MOSFET; PackageDocument: 1995/1996; Published: 8-Jun-2000; LatestRevisionDate: 17-Jul-2002; LatestRevisionNote: Re-released for DXP Platform.; PackageReference: E3; Publisher: Altium Limited
footprint SOT-223
simulation model NMOS (MOSFET-N)
pins: 1 G, 2 D, 3 S, 4 D

## MSP430F169IPM
designator U?
footprint QFP-64P-0.5
pins: 1 DVcc, 2 P6.3/A3, 3 P6.4/A4, 4 P6.5/A5, 5 P6.6/A6/DAC0, 6 P6.7/A7/DAC1/SVSIN, 7 VREF+, 8 XIN, 9 XOUT/TCLK, 10 VeREF+, 11 VREF-/VeREF-, 12 P1.0/TACLK, 13 P1.1/TA0, 14 P1.2/TA1, 15 P1.3/TA2, 16 P1.4/SMCLK, 17 P1.5/TA0, 18 P1.6/TA1, 19 P1.7/TA2, 20 P2.0/ACLK, 21 P2.1/TAINCLK, 22 P2.2/CAOUT/TA0, 23 P2.3/CA0/TA1, 24 P2.4/CA1/TA2, 25 P2.5/Rosc, 26 P2.6/ADC12CLK/DMAE0, 27 P2.7/TA0, 28 P3.0/STE0, 29 P3.1/SIMO0/SDA, 30 P3.2/SOMI0, 31 P3.3/UCLK0/SCL, 32 P3.4/UTXD0, 33 P3.5/URXD0, 34 P3.6/UTXD1, 35 P3.7/URXD1, 36 P4.0/TB0, 37 P4.1/TB1, 38 P4.2/TB2, 39 P4.3/TB3, 40 P4.4/TB4, 41 P4.5/TB5, 42 P4.6/TB6, 43 P4.7/TBCLK, 44 P5.0/STE1, 45 P5.1/SIMO1, 46 P5.2/SOMI1, 47 P5.3/UCLK1, 48 P5.4/MCLK, 49 P5.5/SMCLK, 50 P5.6/ACLK, 51 P5.7/TBoutH/SVSOUT, 52 XT2OUT, 53 XT2IN, 54 TDO/TDI, 55 TDI, 56 TMS, 57 TCK, 58 ~{RST}/NMI, 59 P6.0/A0, 60 P6.1/A1, 61 P6.2/A2, 62 AVss, 63 DVss, 64 AVcc

## MSP430F5438
designator U?
footprint QFP-100P-0.5
pins: 1 P6.4/A4, 2 P6.5/A5, 3 P6.6/A6, 4 P6.7/A7, 5 P7.4/A12, 6 P7.5/A13, 7 P7.6/A14, 8 P7.7/A15, 9 P5.0/VeREF+, 10 P5.1/VeREF-, 11 AVCC, 12 AVSS, 13 P7.0/XIN, 14 P7.1/XOUT, 15 DVSS1, 16 DVCC1, 17 P1.0/TA0CLK, 18 P1.1/TA0.0, 19 P1.2/TA0.1, 20 P1.3/TA0.2, 21 P1.4/TA0.3, 22 P1.5/TA0.4, 23 P1.6/SMCLK, 24 P1.7, 25 P2.0/TA1CLK, 26 P2.1/TA1.0, 27 P2.2/TA1.1, 28 P2.3/TA1.2, 29 P2.4/RTCCLK, 30 P2.5, 31 P2.6/ACLK, 32 P2.7/ADC12CLK/DMAE0, 33 P3.0/UCB0STE/UCA0CLK, 34 P3.1/UCB0SIMO/UCB0SDA, 35 P3.2/UCB0SOMI/UCB0SCL, 36 P3.3/UCB0CLK/UCA0STE, 37 DVSS3, 38 DVCC3, 39 P3.4/UCA0TXD/UCA0SIMO, 40 P3.5/UCA0RXD/UCA0SOMI, 41 P3.6/UCB1STE/UCA1CLK, 42 P3.7/UCB1SIMO/UCB1SDA, 43 P4.0/TB0, 44 P4.1/TB1, 45 P4.2/TB2, 46 P4.3/TB3, 47 P4.4/TB4, 48 P4.5/TB5, 49 P4.6/TB6, 50 P4.7/TBCLK, 51 P5.4/UCB1SOMI/UCB1SCL, 52 P5.5/UCB1CLK/UCA1STE, 53 P5.6/UCA1TXD/UCA1SIMO, 54 P5.7/UCA1RXD/UCA1SOMI, 55 P7.2/TBOUTH, 56 P7.3/TA1.2, 57 P8.0/TA0.0, 58 P8.1/TA0.1, 59 P8.2/TA0.2, 60 P8.3/TA0.3, 61 P8.4/TA0.4, 62 VCORE, 63 DVSS2, 64 DVCC2, 65 P8.5/TA1.0, 66 P8.6/TA1.1, 67 P8.7, 68 P9.0/UCB2STE/UCA2CLK, 69 P9.1/UCB2SIMO/UCB2SDA, 70 P9.2/UCB2SOMI/UCB2SCL, 71 P9.3/UCB2CLK/UCA2STE, 72 P9.4/UCA2TXD/UCA2SIMO, 73 P9.5/UCA2RXD/UCA2SOMI, 74 P9.6, 75 P9.7, 76 P10.0/UCB3STE/UCA3CLK, 77 P10.1/UCB3SIMO/UCB3SDA, 78 P10.2/UCB3SOMI/UCB3SCL, 79 P10.3/UCB3CLK/UCA3STE, 80 P10.4/UCA3TXD/UCA3SIMO, 81 P10.5/UCA3RXD/UCA3SOMI, 82 P10.6, 83 P10.7, 84 P11.0/ACLK, 85 P11.1/MCLK, 86 P11.2/SMCLK, 87 DVCC4, 88 DVSS4, 89 P5.2/XT2IN, 90 P5.3/XT2OUT, 91 TEST/SBWTCK, 92 PJ.0/TDO, 93 PJ.1/TDI/TCLK, 94 PJ.2/TMS, 95 PJ.3/TCK, 96 ~{RST}/NMI/SBWTDIO, 97 P6.0/A0, 98 P6.1/A1, 99 P6.2/A2, 100 P6.3/A3

## OLED
designator J?
1.3寸 OLED
footprint OLED (Footprint not found)
pins: 1 GND, 2 VCC, 3 SCL, 4 SDA, 5 RST, 6 D/C

## P82B96TD
designator U?
footprint SOP-8P-3.9
pins: 1 SDA, 2 SDARX, 3 SDATX, 4 GND, 5 SCLTX, 6 SCLRX, 7 SCL, 8 VCC

## PCF8563
designator U*
I2C 实时时钟
footprint SOP-8
pins: 1 OSCI (in), 2 OSCO (out), 3 ~{INT} (out), 4 VSS, 5 SDA (io), 6 SCL (in), 7 CLKOUT (out), 8 VDD

## PCF8591T
designator U?
I2C 8位AD/DA
footprint SOJ-16/400
pins: 1 AIN0, 2 AIN1, 3 AIN2, 4 AIN3, 5 A0, 6 A1, 7 A2, 8 VSS, 9 SDA, 10 SCL, 11 OSC, 12 EXT, 13 AGND, 14 VREF, 15 AOUT, 16 VDD

## Phone
designator J?
立体声耳机插孔; Published: *; LatestRevisionDate: *; LatestRevisionNote: *; DatasheetDocument: *; Publisher: *
footprint Phone
pins: 1, 2, 3, 4, 5
2 alternate drawings of the same symbol

## PL2303
designator U?
USB转UART
footprint SSOP-28
pins: 1 TXD (out), 2 DTR# (out), 3 RTS# (out), 4 VDD232 (power), 5 RXD (in), 6 RI# (in), 7 GND (power), 8 VCC (power), 9 DSR# (in), 10 DCD# (in), 11 CTS# (in), 12 SHTD# (out), 13 EECLK (out), 14 EEDATA (io), 15 USBDP (io), 16 USBDM (io), 17 3V3OUT (out), 18 GND3V3 (power), 19 RESET# (in), 20 VCC (power), 21 GND (power), 22 TRI_MODE (in), 23 LD_MODE (io), 24 VDDPLL (power), 25 GNDPLL (power), 26 PLLTEST (in), 27 XTIN (in), 28 XTOUT (out)

## PS2-6PIN
designator J?, comment PS/2
PS/2接口; Published: 17-Dec-2003; Publisher: Altium Limited
signal-integrity model Connector
footprint PS2-6
pins: 1, 2, 3, 4, 5, 6

## PT2257
designator U?
I2C音量控制
footprint SOP-8
pins: 1 LIN, 2 LOUT, 3 GND, 4 SDA, 5 SCL, 6 VCC, 7 ROUT, 8 RIN

## PT2262
designator U?
无线遥控发射
footprint DIP-18
pins: 1 A0, 2 A1, 3 A2, 4 A3, 5 A4, 6 A5, 7 A6, 8 A7, 9 Vss, 10 D3, 11 D2, 12 D1, 13 D0, 14 ~{TE}, 15 OSC1, 16 OSC2, 17 DOUT, 18 Vcc

## PT2272
designator U?
无线遥控接收
footprint DIP-18
pins: 1 A0, 2 A1, 3 A2, 4 A3, 5 A4, 6 A5, 7 A6, 8 A7, 9 Vss, 10 D3, 11 D2, 12 D1, 13 D0, 14 DIN, 15 OSC2, 16 OSC1, 17 VT, 18 Vcc

## PWR2.5
designator J?  (value not drawn)
2.5电源插座; Published: 17-Dec-2003; DatasheetDocument: 09-May-2002; Publisher: Altium Limited
signal-integrity model Connector
footprint PWR2.5
pins: 1 (power), 2 (power), 3 (power)

## Relay-6P
designator K?  (value not drawn)
6脚继电器
footprint Relay-6P
pins: 1, 2, 3, 4, 5

## Res
designator R?, comment 104
电阻; Published: 8-Jun-2000; LatestRevisionDate: 17-Jul-2002; LatestRevisionNote: Re-released for DXP Platform.; Publisher: Altium Limited
simulation model RESISTOR (Resistor)
signal-integrity model Res
footprint 0805
pins: 1, 2

## RJ45
designator J?  (value not drawn)
RJ45水晶座
footprint RJ-45
pins: 1 TX+, 2 TX-, 3 RX+, 4 NC, 5 NC, 6 RX-, 7 NC, 8 NC, 9 GND, 10 GND
2 alternate drawings of the same symbol

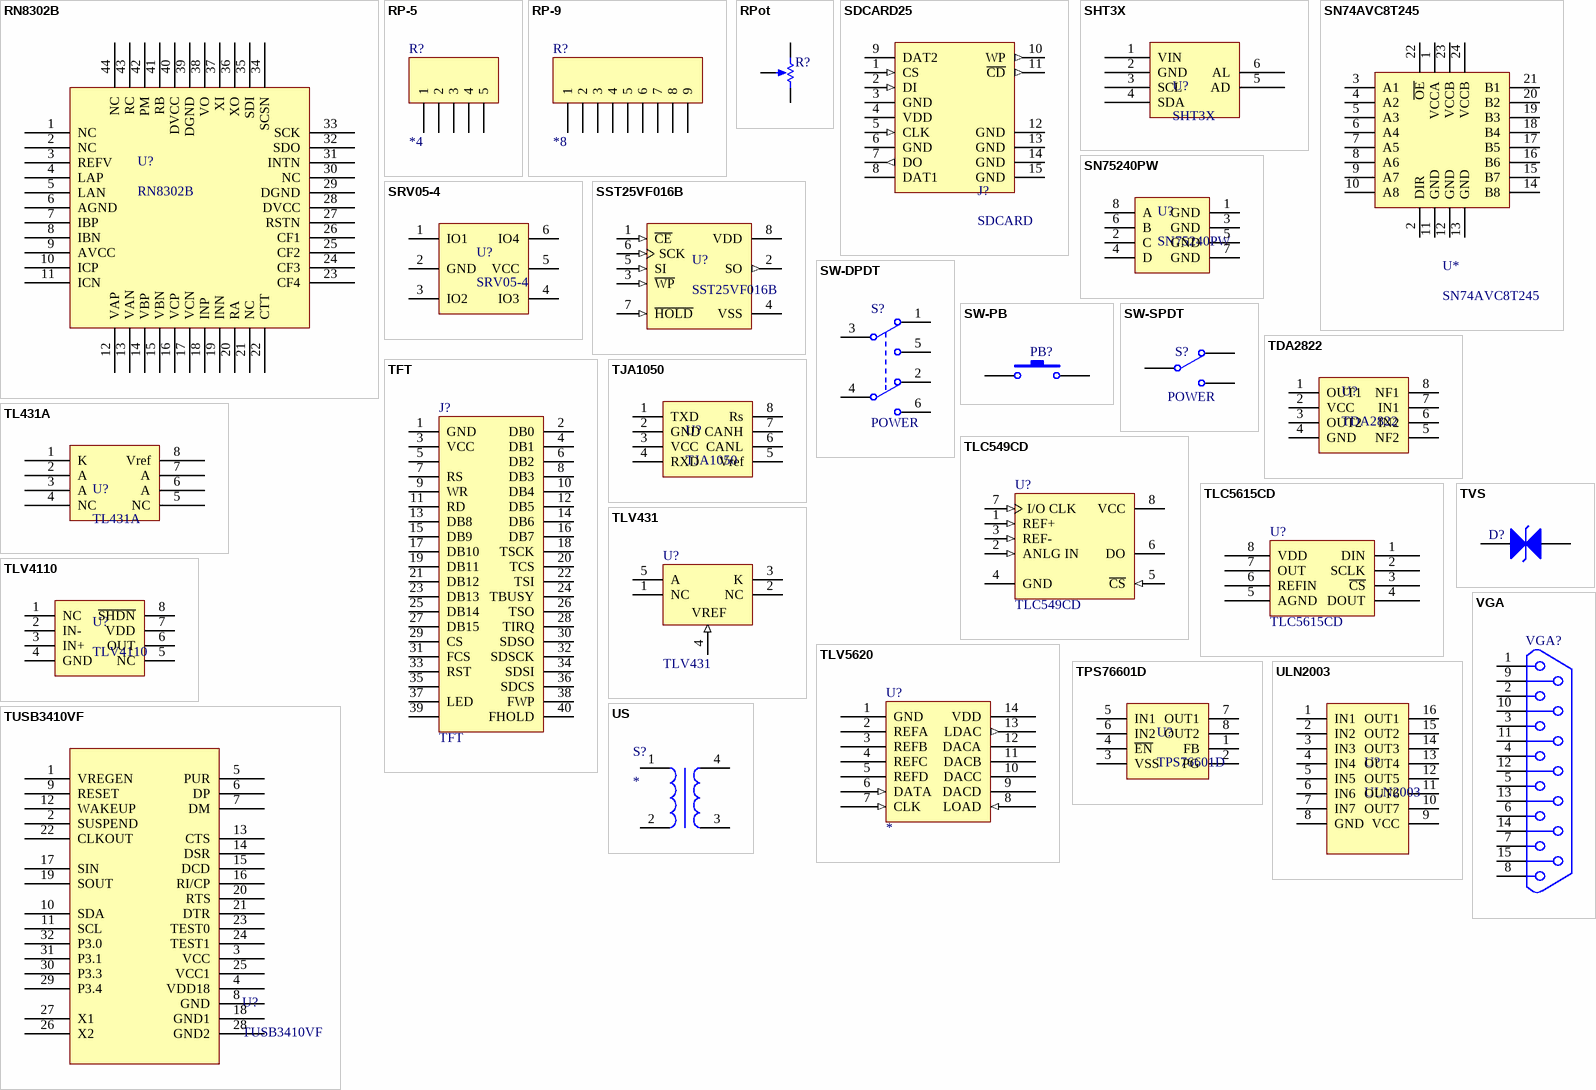
[diagram p3: symbols RN8302B to VGA]

## RN8302B
designator U?
footprint QFP-44P-0.8
pins: 1 NC, 2 NC, 3 REFV, 4 LAP, 5 LAN, 6 AGND, 7 IBP, 8 IBN, 9 AVCC, 10 ICP, 11 ICN, 12 VAP, 13 VAN, 14 VBP, 15 VBN, 16 VCP, 17 VCN, 18 INP, 19 INN, 20 RA, 21 NC, 22 CTT, 23 CF4, 24 CF3, 25 CF2, 26 CF1, 27 RSTN, 28 DVCC, 29 DGND, 30 NC, 31 INTN, 32 SDO, 33 SCK, 34 SCSN, 35 SDI, 36 XO, 37 XI, 38 VO, 39 DGND, 40 DVCC, 41 RB, 42 PM, 43 RC, 44 NC

## RP-5
designator R?, comment *4
5脚排阻
footprint CON5
pins: 1, 2, 3, 4, 5

## RP-9
designator R?, comment *8
9脚排阻
footprint CON9
pins: 1, 2, 3, 4, 5, 6, 7, 8, 9

## RPot
designator R?  (value not drawn)
可调电阻; Sim Note: Enter the Resistance value and the set point into parameter fields.; Set Position: 0.5; Published: 8-Jun-2000; LatestRevisionDate: 17-Jul-2002; LatestRevisionNote: Re-released for DXP Platform.; Publisher: Altium Limited
footprint RP2 (3296W可调电阻)
simulation model POT (Potentiometer)
footprint RP1
pins: 1 TOP, 2 TAP, 3 BOT
1 alternate drawing of the same symbol

## SDCARD25
designator J?, comment SDCARD
SD卡座
footprint SDCARD
pins: 1 CS (in), 2 DI (in), 3 GND, 4 VDD, 5 CLK (in), 6 GND, 7 DO (out), 8 DAT1, 9 DAT2, 10 WP (out), 11 ~{CD} (out), 12 GND, 13 GND, 14 GND, 15 GND

## SHT3X
designator U?
footprint SHT3X
pins: 1 VIN, 2 GND, 3 SCL, 4 SDA, 5 AD, 6 AL

## SN74AVC8T245
designator U*
电平转换
footprint PW24
pins: 1 VCCA, 2 DIR, 3 A1, 4 A2, 5 A3, 6 A4, 7 A5, 8 A6, 9 A7, 10 A8, 11 GND, 12 GND, 13 GND, 14 B8, 15 B7, 16 B6, 17 B5, 18 B4, 19 B3, 20 B2, 21 B1, 22 ~{OE}, 23 VCCB, 24 VCCB

## SN75240PW
designator U?
静电保护
footprint PW8
pins: 1 GND, 2 C, 3 GND, 4 D, 5 GND, 6 B, 7 GND, 8 A

## SRV05-4
designator U?
静电保护
footprint SOT-23-6
pins: 1 IO1, 2 GND, 3 IO2, 4 IO3, 5 VCC, 6 IO4

## SST25VF016B
designator U?
16Mbit SPI FLASH
footprint SOP-8P-5.2
pins: 1 ~{CE} (in), 2 SO (out), 3 ~{WP} (in), 4 VSS (power), 5 SI (in), 6 SCK (in), 7 ~{HOLD} (in), 8 VDD (power)

## SW-DPDT
designator S?, comment POWER
双刀开关; Published: 24-Mar-1999; LatestRevisionDate: 29-May-2009; LatestRevisionNote: IPC-7351 Footprint Added.; PackageVersion: Mar-2001; PackageReference: SOT23-6; Publisher: Altium Limited; PackageDescription: 6-Pin SOT-23 Package 0.95 mm Pitch, 2.7 mm Lead Span; Code_JEITA: SC-74; Code_IPC: SOT26A-6
footprint SWITCH2
pins: 1 NC1, 2 NC2, 3 COMMON1, 4 COMMON2, 5 NO1, 6 NO2

## SW-PB
designator PB?
按钮; Published: 24-Mar-1999; LatestRevisionDate: 17-Jul-2002; LatestRevisionNote: Re-released for DXP Platform.; Publisher: Altium Limited
footprint SW-PB6
footprint SW-PB4.5S
pins: 1, 2

## SW-SPDT
designator S?, comment POWER
单刀开关; Published: 24-Mar-1999; LatestRevisionDate: 17-Dec-2003; LatestRevisionNote: Schematic revised, PCB Footprint replaced.; DatasheetDocument: 05-Dec-2000; Publisher: Altium Limited
footprint SWITCH
pins: 1, 2, 3

## TDA2822
designator U?
功放
footprint SOP-8
pins: 1 OUT1, 2 VCC, 3 OUT2, 4 GND, 5 NF2, 6 IN2, 7 IN1, 8 NF1

## TFT
designator J?
LatestRevisionDate: 17-Jul-2002; LatestRevisionNote: Re-released for DXP Platform.; Publisher: Altium Limited
footprint TFT (Footprint not found)
signal-integrity model Connector
pins: 1 GND, 2 DB0, 3 VCC, 4 DB1, 5, 6 DB2, 7 RS, 8 DB3, 9 WR, 10 DB4, 11 RD, 12 DB5, 13 DB8, 14 DB6, 15 DB9, 16 DB7, 17 DB10, 18 TSCK, 19 DB11, 20 TCS, 21 DB12, 22 TSI, 23 DB13, 24 TBUSY, 25 DB14, 26 TSO, 27 DB15, 28 TIRQ, 29 CS, 30 SDSO, 31 FCS, 32 SDSCK, 33 RST, 34 SDSI, 35, 36 SDCS, 37 LED, 38 FWP, 39, 40 FHOLD

## TJA1050
designator U?
CAN驱动器
footprint SOP-8P-3.9
pins: 1 TXD, 2 GND, 3 VCC, 4 RXD, 5 Vref, 6 CANL, 7 CANH, 8 Rs

## TL431A
designator U?
2.5V基准
footprint SOP-8
pins: 1 K, 2 A, 3 A, 4 NC, 5 NC, 6 A, 7 A, 8 Vref

## TLC549CD
designator U?
单通道-位ADC; Published: 15-Apr-2002; DatasheetDocument: Oct-1988; PackageDocument: Jan-1998; PackageReference: D008; Publisher: Altium Limited
footprint SOP-8
pins: 1 REF+ (in), 2 ANLG IN (in), 3 REF- (in), 4 GND (power), 5 ~{CS} (in), 6 DO (hiz), 7 I/O CLK (in), 8 VCC (power)

## TLC5615CD
designator U?
单通道10位DAC
footprint SOP-8
pins: 1 DIN, 2 SCLK, 3 ~{CS}, 4 DOUT, 5 AGND, 6 REFIN, 7 OUT, 8 VDD

## TLV431
designator U?
1.24V基准; Published: 15-Apr-2002; DatasheetDocument: Oct-2000; PackageDocument: Jan-2001; PackageReference: DBV005; Publisher: Altium Limited
footprint SOT-23-5
simulation model TL431 (SUBCKT)
pins: 1 NC, 2 NC, 3 K (power), 4 REF (in), 5 A (power)
text: VREF

## TLV4110
designator U?
footprint SOP-8P-3.9
pins: 1 NC, 2 IN-, 3 IN+, 4 GND, 5 NC, 6 OUT, 7 VDD, 8 ~{SHDN}

## TLV5620
designator U?
4通道8位DAC
footprint SOP-14
pins: 1 GND (power), 2 REFA, 3 REFB, 4 REFC, 5 REFD, 6 DATA (in), 7 CLK (in), 8 LOAD (in), 9 DACD, 10 DACC, 11 DACB, 12 DACA, 13 LDAC (out), 14 VDD (power)

## TPS76601D
designator U?
可调稳压
footprint SOP-8
pins: 1 FB, 2 PG, 3 VSS, 4 ~{EN}, 5 IN1, 6 IN2, 7 OUT1, 8 OUT2

## TUSB3410VF
designator U?
USB转UART
footprint LQFP-32 (QFP; 32 Leads; Body 7 x 7 mm; Pitch 0.8 mm)
pins: 1 VREGEN, 2 SUSPEND, 3 VCC, 4 VDD18, 5 PUR, 6 DP, 7 DM, 8 GND, 9 RESET, 10 SDA, 11 SCL, 12 WAKEUP, 13 CTS, 14 DSR, 15 DCD, 16 RI/CP, 17 SIN, 18 GND1, 19 SOUT, 20 RTS, 21 DTR, 22 CLKOUT, 23 TEST0, 24 TEST1, 25 VCC1, 26 X2, 27 X1, 28 GND2, 29 P3.4, 30 P3.3, 31 P3.1, 32 P3.0

## TVS
designator D?
Published: 8-Jun-2000; LatestRevisionDate: 17-Jul-2002; LatestRevisionNote: Re-released for DXP Platform.; Publisher: Altium Limited
footprint SMA (DO-214-AC/SMA; 2 C-Bend Leads; Body 5 x 2.7 mm, inc. leads (LxW))
footprint SMB (DO-214-AA/SMB; 2 C-Bend Leads; Body 5.3 x 3.6 mm, inc. leads (LxW))
footprint SMC (DO-214-AB/SMC; 2 C-Bend Leads; Body 7.9 x 5.9 mm, inc. leads (LxW))
pins: 1 A, 2 K

## ULN2003
designator U?
电机驱动
footprint SOP-16P-3.9
pins: 1 IN1, 2 IN2, 3 IN3, 4 IN4, 5 IN5, 6 IN6, 7 IN7, 8 GND, 9 VCC, 10 OUT7, 11 OUT6, 12 OUT5, 13 OUT4, 14 OUT3, 15 OUT2, 16 OUT1

## US
designator S?
电压互感器
footprint US
pins: 1, 2, 3, 4

## VGA
designator VGA?  (value not drawn)
VGA弯座(孔)
footprint VGA
pins: 1, 2, 3, 4, 5, 6, 7, 8, 9, 10, 11, 12, 13, 14, 15